# EAGLE library part DMC2700UDM (library SparkFun-DiscreteSemi)
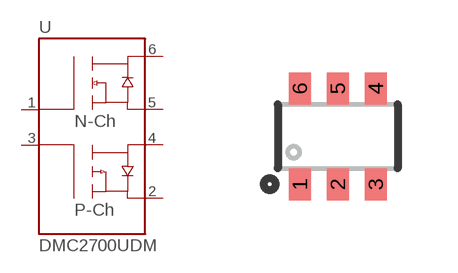
[diagram p9: symbol with the pads of SOT26; footprint SOT26]

Designator prefix -

## DMC2700UDM (PROD_ID: TRANS-11993)  [SOT26]
1  G1
2  S2
3  G2
4  D2
5  S1
6  D1

## Footprint SOT26 (pad centres in mm)
smd 0.55 x 0.8: 1 -0.95,-1.2; 2 0,-1.2; 3 0.95,-1.2; 4 0.95,1.2; 5 0,1.2; 6 -0.95,1.2